# EAGLE library part MAX44269 (library ecad)
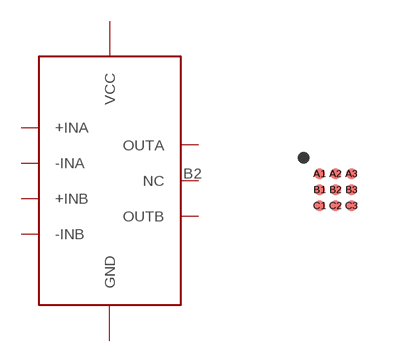
[diagram p0: symbol with the pads of 9_BUMP_WLP; footprint 9_BUMP_WLP]

Designator prefix U

## MAX44269  [9_BUMP_WLP]
A1  -INA  pas
A2  +INA  pas
A3  OUTA  pas
B1  GND  pas
B2  NC  pas
B3  VCC  pas
C1  -INB  pas
C2  +INB  pas
C3  OUTB  pas

## Footprint 9_BUMP_WLP (pad centres in mm)
smd 0.28 x 0.28: A1 -0.4,0.4; A2 0,0.4; A3 0.4,0.4; B1 -0.4,0; B2 0,0; B3 0.4,0; C1 -0.4,-0.4; C2 0,-0.4; C3 0.4,-0.4